# Altium footprint library LED(GREEN, 2.6V, 350mA, SMD-1414).PcbLib: 3 footprints
Each footprint in its own frame and in the unit in brackets; x right, y up, seen from the top. Pads: shape width x height; smd on the part's side, far side on the other; paste and mask are expansions set on the pad; w line width, h text height; cw(c..) or ccw(c..) is an arc to the next point about the centre after c.
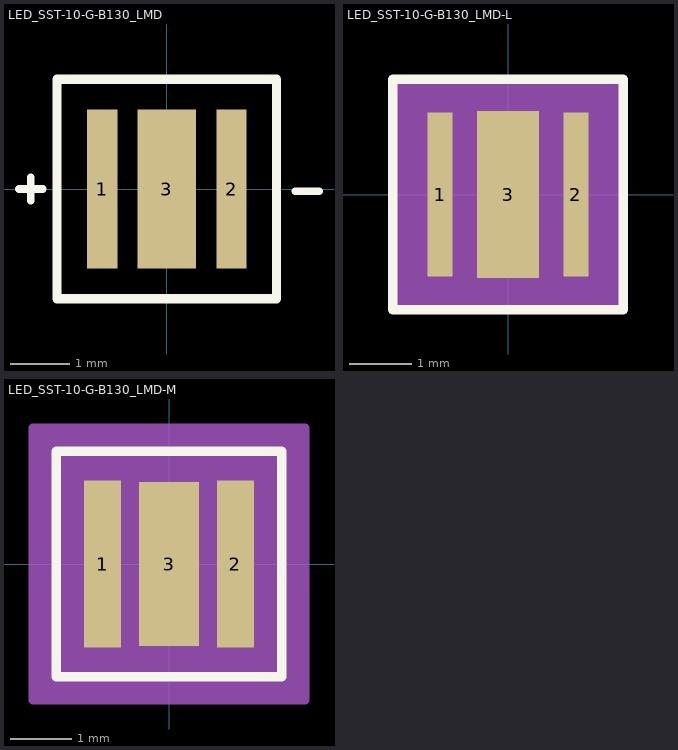
[diagram p0: the footprints below, top view; thin cyan lines are the x and y axes]

## LED_SST-10-G-B130_LMD [mil]
pads (3):
  rect 20x106 smd paste+0 mask+0: 1(-43,0) 2(43,0)
  rect 39x106 smd paste+0 mask+0: 3(0,0)
Top Overlay:
  lines w5: -98.39,0 -82.64,0 ; -90.51,-7.87 -90.51,7.87 ; 85.41,-1.64 101.16,-1.64
  lines w6: -73,-73 -73,73 73,73 73,-73 -73,-73
Top Paste:
  region: 15.56,-3.94 -15.56,-3.94 -15.56,-49.06 15.56,-49.06
  region: 15.56,49.06 -15.56,49.06 -15.56,3.94 15.56,3.94
3D body "SST-10-G-B130-F530.STEP": height 74.15, standoff 0, extent -67.91,-67.91 67.91,67.91

## LED_SST-10-G-B130_LMD-L [mil]
pads (3):
  rect 16x104 smd paste+0 mask+0: 1(-43,0) 2(43,0)
  rect 39x106 smd paste+0 mask+0: 3(0,0)
Top Overlay:
  lines w6: -73,-73 73,-73 73,73 -73,73 -73,-73
  text ".Designator" at -137.5,-25 h50
Top Paste:
  region: 15.56,49.06 -15.56,49.06 -15.56,3.94 15.56,3.94
  region: 15.56,-3.94 -15.56,-3.94 -15.56,-49.06 15.56,-49.06
Mechanical 13:
  circle w1: c-35,0 r3
  lines w1: -12,68 ccw(c0,68) 12,68 ; -68,-68 68,-68 68,68 -68,68 -68,-68
  text ".Designator" at -137.5,-25 h50
Mechanical 15:
  region: -72,-56 -72,56 -72,72 72,72 72,56 72,-56 72,-72 -72,-72
  lines w6: -72,-56 -72,56 ; -72,-56 -72,-56 ; -72,-56 -72,-72 72,-72 72,-56 ; -72,56 -72,56 ; -72,56 -72,72 72,72 72,56 ; 72,-56 72,56 ; 72,-56 72,-56 ; 72,56 72,56
3D body "LED_SST-10-G-B130_LMD.step": height 80.12, standoff 0, extent -67.99,-67.99 67.99,67.99

## LED_SST-10-G-B130_LMD-M [mil]
pads (3):
  rect 24x108 smd paste+0 mask+0: 1(-43,0) 2(43,0)
  rect 39x106 smd paste+0 mask+0: 3(0,0)
Top Overlay:
  lines w6: -73,-73 73,-73 73,73 -73,73 -73,-73
  text ".Designator" at -137.5,-25 h50
Top Paste:
  region: 15.56,49.06 -15.56,49.06 -15.56,3.94 15.56,3.94
  region: 15.56,-3.94 -15.56,-3.94 -15.56,-49.06 15.56,-49.06
Mechanical 13:
  circle w1: c-31,0 r3
  lines w1: -12,68 ccw(c0,68) 12,68 ; -68,-68 68,-68 68,68 -68,68 -68,-68
  text ".Designator" at -137.5,-25 h50
Mechanical 15:
  region: -88,-74 -88,74 -88,88 88,88 88,74 88,-74 88,-88 -88,-88
  lines w6: -88,-74 -88,74 ; -88,-74 -88,-74 ; -88,-74 -88,-88 88,-88 88,-74 ; -88,74 -88,74 ; -88,74 -88,88 88,88 88,74 ; 88,-74 88,74 ; 88,-74 88,-74 ; 88,74 88,74
3D body "LED_SST-10-G-B130_LMD.step": height 80.12, standoff 0, extent -67.99,-67.99 67.99,67.99